# EAGLE library part 693043020611 (library Wurth_Elektronik_Electromechanic_Input-Output_Connectors_rev16b)
WR-CRD_Nano SIM_Push & Pull_SMT Nano SIM Push & Pull Type SMT - 1.20mm Height - T&R with Mylar for Pick & Place Code:Con_I-O_COM_CRD_SIM_Nano_693043020611_693043020611 <http://katalog.we-online.de/media/images/eican/Con_I-O_COM_CRD_SIM_Nano_693043020611_pf2.jpg> Details see: http://katalog.we-online.de/en/em/693_043_020_611/693_043_020_611?m Created 2014-12-22, aslant tao 2014 (C) Würth Elektronik
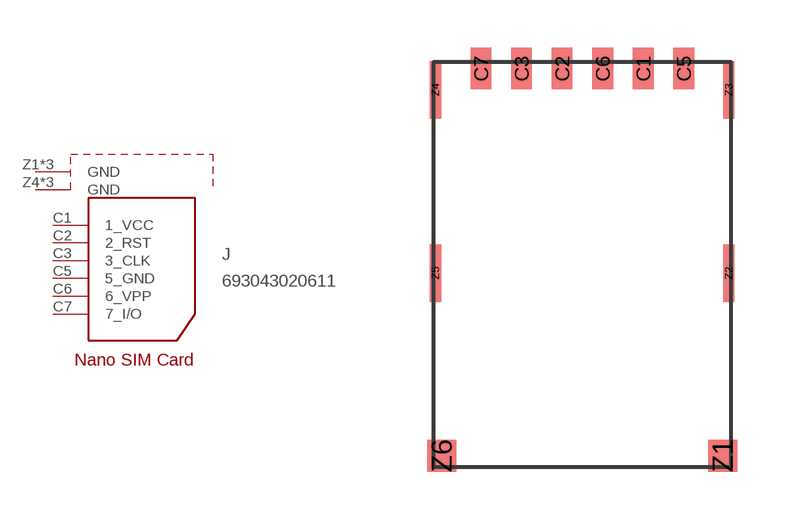
[diagram p150: symbol with the pads of 693043020611; footprint 693043020611]

Designator prefix J

## 693043020611  [693043020611]
C1  1_VCC
C2  2_RST
C3  3_CLK
C5  5_GND
C6  6_VPP
C7  7_I/O
Z1  GND
Z2  GND
Z3  GND
Z4  GND
Z5  GND
Z6  GND

## Footprint 693043020611 (pad centres in mm)
smd 0.65 x 1.3: C1 1.91,0; C2 -0.63,0; C3 -1.9,0; C5 3.18,0; C6 0.64,0; C7 -3.17,0
smd 0.9 x 1: Z1 4.4,-12.14; Z6 -4.4,-12.14
smd 0.35 x 1.8: Z2 4.595,-6.42; Z3 4.595,-0.67; Z4 -4.596,-0.67; Z5 -4.596,-6.42